# EAGLE library part DUAL-OPAMP (library Opamp)
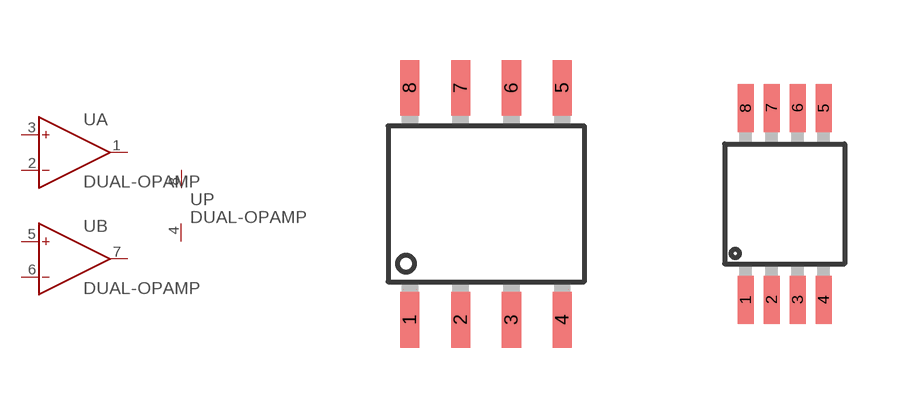
[diagram p0: symbol with the pads of SOP8; footprints SOP8, MSOP8]

Designator prefix U; gates A=OPAMP B=OPAMP P=OPAMP_PWR

## DUAL-OPAMP-SOP8  [SOP8]
1  A:OUT  out
2  A:IN-  in
3  A:IN+  in
4  P:V-  in
5  B:IN+  in
6  B:IN-  in
7  B:OUT  out
8  P:V+  in

## DUAL-OPAMP-MSOP8  [MSOP8]
Pads as for SOP8

## Footprint SOP8 (pad centres in mm)
smd 0.48 x 1.4: 1 -1.905,-2.9; 2 -0.635,-2.9; 3 0.635,-2.9; 4 1.905,-2.9; 5 1.905,2.9; 6 0.635,2.9; 7 -0.635,2.9; 8 -1.905,2.9

## Footprint MSOP8 (pad centres in mm)
smd 0.4 x 1.2: 1 -0.975,-2.4; 2 -0.325,-2.4; 3 0.325,-2.4; 4 0.975,-2.4; 5 0.975,2.4; 6 0.325,2.4; 7 -0.325,2.4; 8 -0.975,2.4